# Altium footprint library all_kalex_Library.PcbLib: 234 footprints (part 6 of 15)
Each footprint in its own frame and in the unit in brackets; x right, y up, seen from the top. Pads: shape width x height; smd on the part's side, far side on the other; paste and mask are expansions set on the pad; w line width, h text height; cw(c..) or ccw(c..) is an arc to the next point about the centre after c.
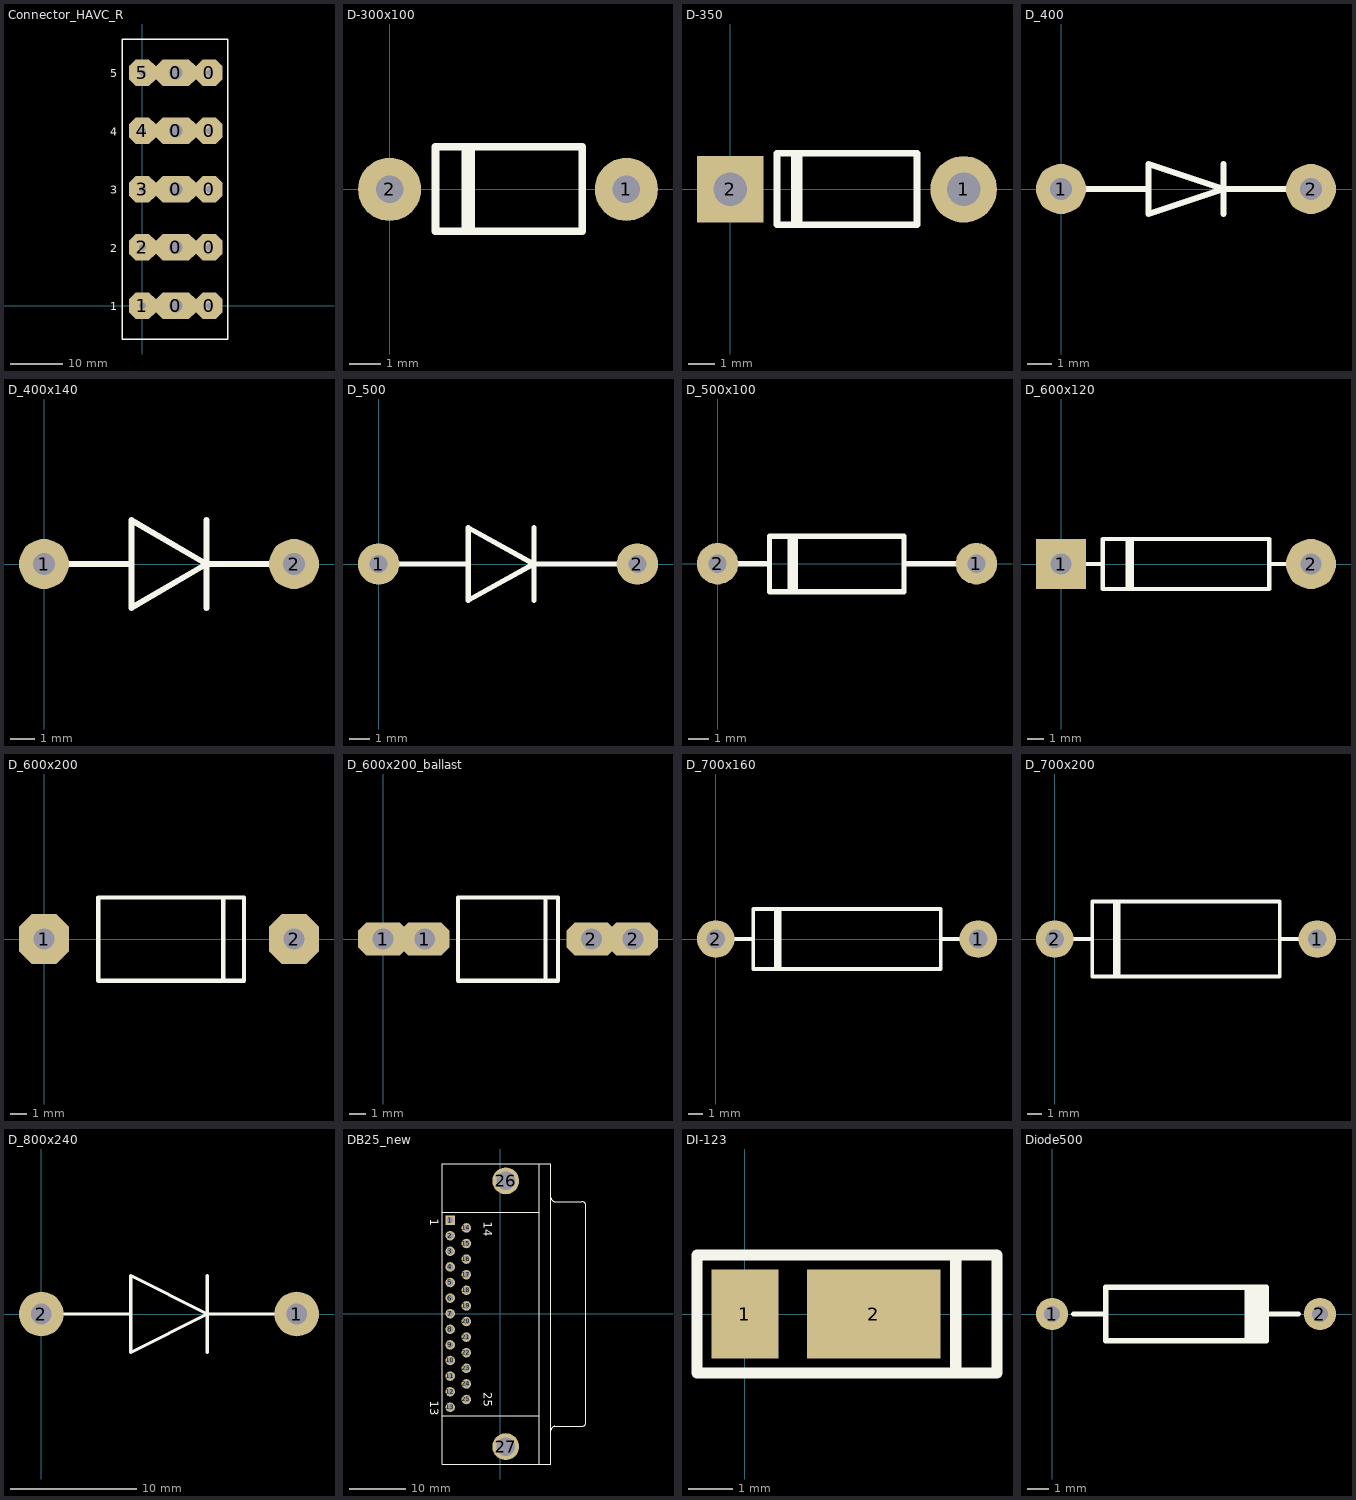
[diagram p5: the footprints below, top view; thin cyan lines are the x and y axes]

## Connector_HAVC_R [mil]
pads (15):
  oct 300x200 hole 100: 0(250,0) 0(250,437) 0(250,874) 0(250,1311) 0(250,1748)
  oct 200x200 hole 50: 0(500,0) 0(500,437) 0(500,874) 0(500,1311) 0(500,1748) 1(0,0) 2(0,437) 3(0,874) 4(0,1311) 5(0,1748)
Top Overlay:
  lines w10: -150,-250 640,-250 640,2000 -150,2000 -150,-250
  text "1" at -241.3,-35 h60
  text "2" at -241.3,402.01 h60
  text "3" at -241.3,839.02 h60
  text "4" at -241.3,1276.02 h60
  text "5" at -241.3,1713.03 h60

## D-300x100 [mil]
pads (2):
  round 80 hole 35: 1(300,0) 2(0,0)
Top Overlay:
  lines w10: 96,-53 96,54 ; 103,-53 103,54 ; 58,-53 244,-53 244,54 58,54 58,-53

## D-350 [mil]
pads (2):
  round 100 hole 50: 1(350,0)
  rect 100x100 hole 50: 2(0,0)
Top Overlay:
  lines w10: 96,-53 96,54 ; 103,-53 103,54 ; 70,-53 280,-53 280,54 70,54 70,-53

## D_400 [mil]
pads (2):
  round 80 hole 35: 1(0,0) 2(400,0)
Top Overlay:
  lines w10: 0,0 140,0 ; 260,-40 260,40 ; 400,0 260,0 ; 260,0 140,-40 140,40 260,0

## D_400x140 [mil]
pads (2):
  round 80 hole 35: 1(0,0) 2(400,0)
Top Overlay:
  lines w10: 0,0 140,0 ; 260,-70 260,70 ; 400,0 260,0 ; 260,0 140,-70 140,70 260,0

## D_500 [mil]
pads (2):
  round 80 hole 35: 1(0,0) 2(500,0)
Top Overlay:
  lines w10: 0,0 172,0 ; 300,-70 300,0 ; 300,70 300,0 ; 500,0 300,0 ; 300,0 173,70 173,-70 300,0

## D_500x100 [mil]
pads (2):
  round 80 hole 35: 1(500,0) 2(0,0)
Top Overlay:
  lines w10: 0,0 100,0 ; 140,-54 140,53 ; 150,-54 150,53 ; 360,0 500,0 ; 100,-54 360,-54 360,53 100,53 100,-54

## D_600x120 [mil]
pads (2):
  rect 120x120 hole 50: 1(0,0)
  round 120 hole 50: 2(600,0)
Top Overlay:
  lines w10: 0,0 100,0 ; 160,-60 160,60 ; 170,-60 170,60 ; 500,0 600,0 ; 100,0 100,-60 500,-60 500,60 100,60 100,0

## D_600x200 [mil]
pads (2):
  oct 120x120 hole 50: 1(0,0) 2(600,0)
Top Overlay:
  lines w10: 430,-100 430,100 ; 130,-100 480,-100 480,100 130,100 130,-100

## D_600x200_ballast [mil]
pads (4):
  oct 120x80 hole 50: 1(0,0) 1(100,0) 2(500,0) 2(600,0)
Top Overlay:
  lines w10: 390,-100 390,100 ; 180,-100 420,-100 420,100 180,100 180,-100

## D_700x160 [mil]
pads (2):
  round 100 hole 50: 1(700,0) 2(0,0)
Top Overlay:
  lines w10: 0,0 100,0 ; 160,-80 160,80 ; 170,-80 170,80 ; 600,0 700,0 ; 100,0 100,-80 600,-80 600,80 100,80 100,0

## D_700x200 [mil]
pads (2):
  round 100 hole 50: 1(700,0) 2(0,0)
Top Overlay:
  lines w10: 0,0 100,0 ; 160,-100 160,100 ; 170,-100 170,100 ; 600,0 700,0 ; 100,0 100,-100 600,-100 600,100 100,100 100,0

## D_800x240 [mil]
pads (2):
  round 140 hole 65: 1(800,0) 2(0,0)
Top Overlay:
  lines w10: 0,0 280,0 ; 520,-120 520,120 ; 800,0 520,0 ; 520,0 280,120 280,-120 520,0

## DB25_new [mm]
pads (27):
  rect 1.69x1.69 hole 1.09: 1(-8.885,16.572)
  round 1.69 hole 1.09: 2(-8.885,13.811) 3(-8.885,11.05) 4(-8.885,8.289) 5(-8.885,5.528) 6(-8.885,2.767) 7(-8.885,0.006) 8(-8.885,-2.755) 9(-8.885,-5.516) 10(-8.885,-8.277) 11(-8.885,-11.038) 12(-8.885,-13.799) 13(-8.885,-16.56) 14(-6.045,15.191) 15(-6.045,12.43) 16(-6.045,9.669) 17(-6.045,6.908) 18(-6.045,4.147) 19(-6.045,1.386) 20(-6.045,-1.375) 21(-6.045,-4.136) 22(-6.045,-6.897) 23(-6.045,-9.658) 24(-6.045,-12.419) 25(-6.045,-15.18)
  round 4.76 hole 3.26: 26(0.94,23.52) 27(0.94,-23.52)
Top Overlay:
  lines w0.2: -10.287,-18.048 6.858,-18.048 ; -10.287,17.952 6.858,17.952 ; 6.858,-26.598 6.858,26.502 ; 8.949,-20.643 cw(c9.644,-20.643) 9.644,-19.948 14.423,-19.948 ; 8.949,20.547 ccw(c9.644,20.547) 9.644,19.852 14.418,19.852 ; 14.418,19.847 cw(c14.418,19.152) 15.113,19.152 15.113,-19.248 ; 14.423,-19.943 ccw(c14.423,-19.248) 15.118,-19.248 ; -10.287,-26.598 -10.287,26.502 8.941,26.502 8.941,-26.598 -10.287,-26.598
  text "1" at -12.44,16.822 h1.5
  text "13" at -12.44,-15.435 h1.5
  text "14" at -2.94,16.316 h1.5
  text "25" at -2.94,-13.93 h1.5

## DI-123 [mil] "DFLZ13-7"
pads (2):
  rect 60x80 smd: 1(0,0)
  rect 120x80 smd: 2(115.5,0)
Top Overlay:
  lines w10: 189,-53 225,-53 226,-53 226,53 189,53 ; 189,-53 -43,-53 -43,53 189,53 ; 189,-53 189,53
3D body: height 250, standoff 0, extent -21,-49 166,50

## Diode500 [mil]
pads (2):
  round 60 hole 30: 1(0,0) 2(500,0)
Top Overlay:
  lines w10: 40,0 100,0 ; 364,-50 364,50 ; 372,-50 372,50 ; 379,-50 379,50 ; 388,-49 388,50 ; 395,-49 395,50 ; 400,0 460,0 ; 100,-50 400,-50 400,50 100,50 100,-50